# Altium footprint library T520V_CAP_330.PcbLib: 1 footprints
Each footprint in its own frame and in the unit in brackets; x right, y up, seen from the top. Pads: shape width x height; smd on the part's side, far side on the other; paste and mask are expansions set on the pad; w line width, h text height; cw(c..) or ccw(c..) is an arc to the next point about the centre after c.
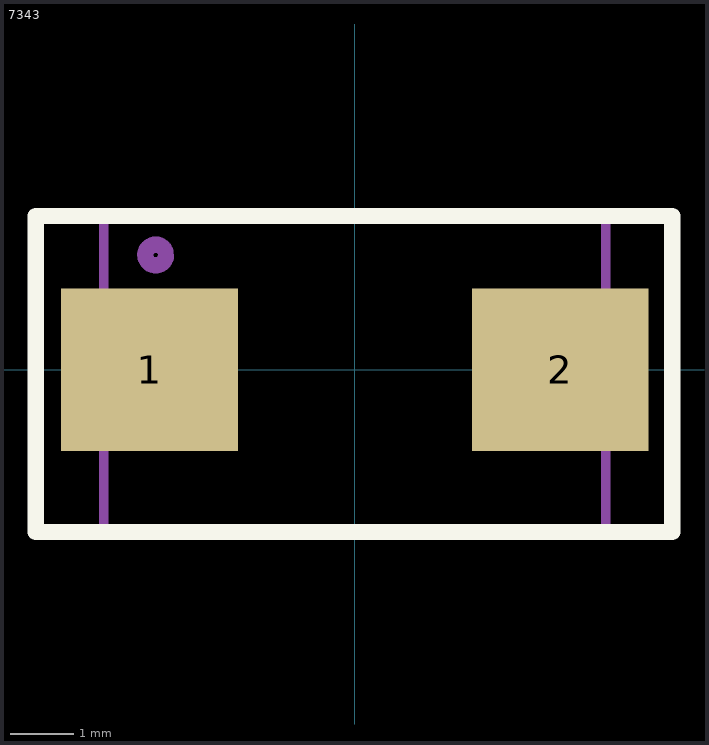
[diagram p0: the footprint, top view; thin cyan lines are the x and y axes]

## 7343 [mm] "Kemet Cap 7343"
pads (2):
  rect 2.77x2.55 smd: 1(-3.22,0) 2(3.22,0)
Top Overlay:
  lines w0.254: -5.004,-2.54 -5.004,2.413 4.978,2.413 4.978,-2.54 -5.004,-2.54
Mechanical 29:
  lines w0.15: -3.937,-2.54 -3.937,2.413 3.937,2.413 3.937,-2.54 -3.937,-2.54
  lines w0.254: -2.971,1.859 ccw(c-3.124,1.803) -2.962,1.791
  text ".Designator" at -2.362,-0.559 h1.02
3D body "T520V337M2R5ATE025.step": height 1.91, standoff 0.01, extent -3.8,-2.314 3.8,2.286